# Altium footprint library JOHNSON_142-0701-841.PcbLib: 1 footprints
Each footprint in its own frame and in the unit in brackets; x right, y up, seen from the top. Pads: shape width x height; smd on the part's side, far side on the other; paste and mask are expansions set on the pad; w line width, h text height; cw(c..) or ccw(c..) is an arc to the next point about the centre after c.
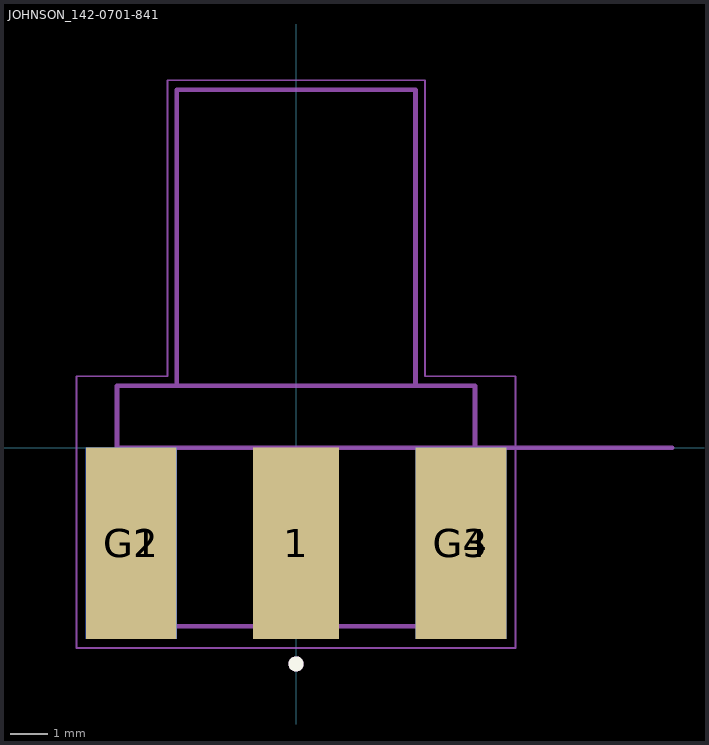
[diagram p0: the footprint, top view; thin cyan lines are the x and y axes]

## JOHNSON_142-0701-841 [mil]
pads (5):
  rect 90x200 smd: 1(0,-100)
  rect 95x200 smd: G1(-172.5,-100) G3(172.5,-100)
  rect 95x200 smd far side: G2(-172.5,-100) G4(172.5,-100)
Top Overlay:
  circle w7.87: c0,-226.38 r3.94
Mechanical 13:
  circle w7.87: c0,-226.38 r3.94
  lines w1.97: -229.84,-209.84 -229.84,74.8 -134.84,74.8 -134.84,384.65 134.84,384.65 134.84,74.8 229.84,74.8 229.84,-209.84 -229.84,-209.84
  lines w5: 393.7,0 -187.4,0 ; -187.4,-187.01 -187.4,0 ; -187.4,-187.01 187.4,-187.01 ; -187.4,-187.01 -187.4,0 ; -187.4,-187.01 187.4,-187.01 ; -187.4,0 -187.4,64.96 ; -187.4,0 -187.4,64.96 ; -187.4,0 187.4,0 ; -187.4,64.96 -125,64.96 ; -187.4,64.96 -125,64.96 ; -125,64.96 125,64.96 ; -125,64.96 -125,374.8 ; -125,64.96 125,64.96 ; -125,64.96 -125,374.8 ; -125,374.8 125,374.8 ; -125,374.8 125,374.8 ; 125,64.96 187.4,64.96 ; 125,64.96 125,374.8 ; 125,64.96 187.4,64.96 ; 125,64.96 125,374.8 ; 187.4,-187.01 187.4,64.96 ; 187.4,-187.01 187.4,0 ; 187.4,0 187.4,64.96
  text "PCB EDGE" at 255.91,9.84 h27.56
Mechanical 15:
  lines w1.97: -229.84,-209.84 -229.84,74.8 -134.84,74.8 -134.84,384.65 134.84,384.65 134.84,74.8 229.84,74.8 229.84,-209.84 -229.84,-209.84
3D body "step_temp.STEP": height 187.5, standoff -187.5, extent -187,-156 375,156